# Altium footprint library 1N4148W.PcbLib: 3 footprints
Each footprint in its own frame and in the unit in brackets; x right, y up, seen from the top. Pads: shape width x height; smd on the part's side, far side on the other; paste and mask are expansions set on the pad; w line width, h text height; cw(c..) or ccw(c..) is an arc to the next point about the centre after c.
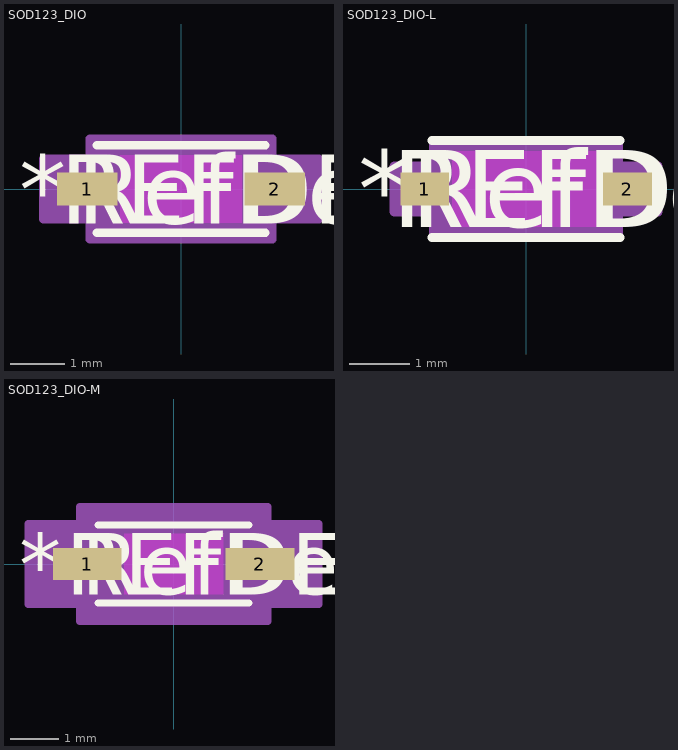
[diagram p0: the footprints below, top view; thin cyan lines are the x and y axes]

## SOD123_DIO [mm]
pads (2):
  rect 1.111x0.601 smd paste+0 mask+0: 1(-1.725,0) 2(1.725,0)
Top Overlay:
  lines w0.152: -1.552,-0.802 1.552,-0.802 ; -1.552,0.802 1.552,0.802
  text "RefDes" at -1.905,-0.635 h1.27
  text "REFDES" at -2.222,-0.635 h1.27
  text "*" at -2.979,-0.635 h1.27
Keep-Out Layer:
  region: -1.119,-0.624 -1.119,0.624 1.119,0.624 1.119,-0.624
Mechanical 13:
  lines w0.025: -1.425,-0.337 -1.087,-0.675 ; -1.425,0.337 -1.087,0.675 ; -1.925,-0.275 -1.925,0.275 -1.425,0.275 -1.425,-0.275 -1.925,-0.275 ; -1.425,-0.675 1.425,-0.675 1.425,0.675 -1.425,0.675 -1.425,-0.675 ; 1.425,-0.275 1.425,0.275 1.925,0.275 1.925,-0.275 1.425,-0.275
  text "RefDes2" at -2.222,-0.635 h1.27
  text "*" at -1.488,-0.635 h1.27
Mechanical 15:
  region: -1.679,-0.554 -2.535,-0.554 -2.535,0.554 -1.679,0.554 -1.679,0.929 1.679,0.929 1.679,0.554 2.535,0.554 2.535,-0.554 1.679,-0.554 1.679,-0.929 -1.679,-0.929
  lines w0.152: -2.535,-0.554 -2.535,0.554 -1.679,0.554 -1.679,0.929 1.679,0.929 1.679,0.554 2.535,0.554 2.535,-0.554 1.679,-0.554 1.679,-0.929 -1.679,-0.929 -1.679,-0.554 -2.535,-0.554
3D body "SOD123_DIO.step": height 0.81, standoff 0, extent -1.925,-0.675 1.925,0.675

## SOD123_DIO-L [mm]
pads (2):
  rect 0.806x0.55 smd paste+0 mask+0: 1(-1.674,0) 2(1.674,0)
Top Overlay:
  lines w0.152: -1.552,-0.802 1.552,-0.802 ; -1.552,0.802 1.552,0.802
  text "REFDES" at -2.222,-0.635 h1.27
  text "*" at -2.776,-0.635 h1.27
  text "RefDes" at -1.905,-0.635 h1.27
Keep-Out Layer:
  region: -1.22,-0.624 -1.22,0.624 1.22,0.624 1.22,-0.624
Mechanical 13:
  lines w0.025: -1.425,-0.337 -1.087,-0.675 ; -1.425,0.337 -1.087,0.675 ; -1.925,-0.275 -1.925,0.275 -1.425,0.275 -1.425,-0.275 -1.925,-0.275 ; -1.425,-0.675 1.425,-0.675 1.425,0.675 -1.425,0.675 -1.425,-0.675 ; 1.425,-0.275 1.425,0.275 1.925,0.275 1.925,-0.275 1.425,-0.275
  text "*" at -1.488,-0.635 h1.27
  text "RefDes2" at -2.222,-0.635 h1.27
Mechanical 15:
  region: -1.527,-0.377 -2.179,-0.377 -2.179,0.377 -1.527,0.377 -1.527,0.777 1.527,0.777 1.527,0.377 2.179,0.377 2.179,-0.377 1.527,-0.377 1.527,-0.777 -1.527,-0.777
  lines w0.152: -2.179,-0.377 -2.179,0.377 -1.527,0.377 -1.527,0.777 1.527,0.777 1.527,0.377 2.179,0.377 2.179,-0.377 1.527,-0.377 1.527,-0.777 -1.527,-0.777 -1.527,-0.377 -2.179,-0.377
3D body "SOD123_DIO.step": height 0.81, standoff 0, extent -1.925,-0.675 1.925,0.675

## SOD123_DIO-M [mm]
pads (2):
  rect 1.416x0.652 smd paste+0 mask+0: 1(-1.776,0) 2(1.776,0)
Top Overlay:
  lines w0.152: -1.552,-0.802 1.552,-0.802 ; -1.552,0.802 1.552,0.802
  text "REFDES" at -2.222,-0.635 h1.27
  text "*" at -3.182,-0.635 h1.27
  text "RefDes" at -1.905,-0.635 h1.27
Keep-Out Layer:
  region: -1.017,-0.624 -1.017,0.624 1.017,0.624 1.017,-0.624
Mechanical 13:
  lines w0.025: -1.425,-0.337 -1.087,-0.675 ; -1.425,0.337 -1.087,0.675 ; -1.925,-0.275 -1.925,0.275 -1.425,0.275 -1.425,-0.275 -1.925,-0.275 ; -1.425,-0.675 1.425,-0.675 1.425,0.675 -1.425,0.675 -1.425,-0.675 ; 1.425,-0.275 1.425,0.275 1.925,0.275 1.925,-0.275 1.425,-0.275
  text "*" at -1.488,-0.635 h1.27
  text "RefDes2" at -2.222,-0.635 h1.27
Mechanical 15:
  region: -1.933,-0.834 -2.992,-0.834 -2.992,0.834 -1.933,0.834 -1.933,1.183 1.933,1.183 1.933,0.834 2.992,0.834 2.992,-0.834 1.933,-0.834 1.933,-1.183 -1.933,-1.183
  lines w0.152: -2.992,-0.834 -2.992,0.834 -1.933,0.834 -1.933,1.183 1.933,1.183 1.933,0.834 2.992,0.834 2.992,-0.834 1.933,-0.834 1.933,-1.183 -1.933,-1.183 -1.933,-0.834 -2.992,-0.834
3D body "SOD123_DIO.step": height 0.81, standoff 0, extent -1.925,-0.675 1.925,0.675